# Altium schematic symbol library 6N136.SchLib: 1 symbol
Pins are listed as number, name and electrical type; pins without a type are passive.

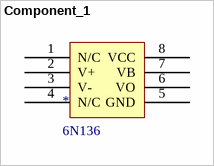
[diagram p0: symbol Component_1]

## Component_1
designator *, comment 6N136
pins: 1 N/C, 2 V+, 3 V-, 4 N/C, 5 GND, 6 VO, 7 VB, 8 VCC